# Altium footprint library PCB - CONNECTOR - MOLEX - MOLEX 0530480810.PcbLib: 1 footprints
Each footprint in its own frame and in the unit in brackets; x right, y up, seen from the top. Pads: shape width x height; smd on the part's side, far side on the other; paste and mask are expansions set on the pad; w line width, h text height; cw(c..) or ccw(c..) is an arc to the next point about the centre after c.
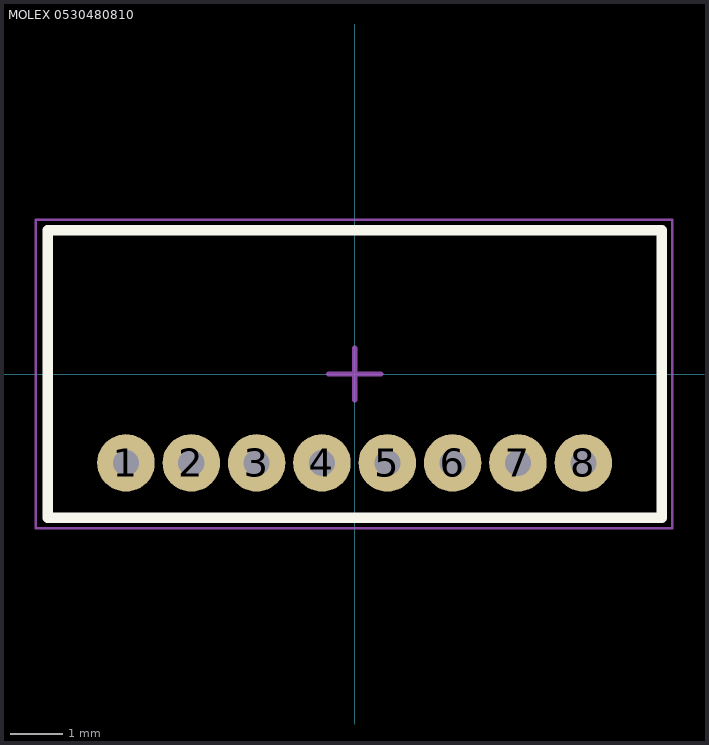
[diagram p0: the footprint, top view; thin cyan lines are the x and y axes]

## MOLEX 0530480810 [mm] "Connector Header Through Hole, Right Angle 8 position, 1.25mm Pitch, 11.75x5.50 mm Body"
height 3.5
pads (8):
  round 1.1 hole 0.5: 1(-4.375,-1.7) 2(-3.125,-1.7) 3(-1.875,-1.7) 4(-0.625,-1.7) 5(0.625,-1.7) 6(1.875,-1.7) 7(3.125,-1.7) 8(4.375,-1.7)
Top Overlay:
  lines w0.2: -5.875,-2.75 -5.875,2.75 5.875,2.75 5.875,-2.75 -5.875,-2.75
Mechanical 13:
  lines w0.1: -5.875,-2.75 -5.875,2.75 5.875,2.75 5.875,-2.75 -5.875,-2.75
Mechanical 15 (Mech15):
  lines w0.05: -6.1,-2.95 -6.1,2.95 6.075,2.95 6.075,-2.95 -6.1,-2.95
  lines w0.1: -0.5,0 0,0 ; 0,-0.5 0,0 ; 0,0.5 0,0 ; 0.5,0 0,0
3D body: height 3.5, standoff -2.3, extent -5.875,-2.75 5.875,2.75